# Altium footprint library IC_SMD_QUAD.PCBLIB: 135 footprints (part 8 of 9)
Each footprint in its own frame and in the unit in brackets; x right, y up, seen from the top. Pads: shape width x height; smd on the part's side, far side on the other; paste and mask are expansions set on the pad; w line width, h text height; cw(c..) or ccw(c..) is an arc to the next point about the centre after c.
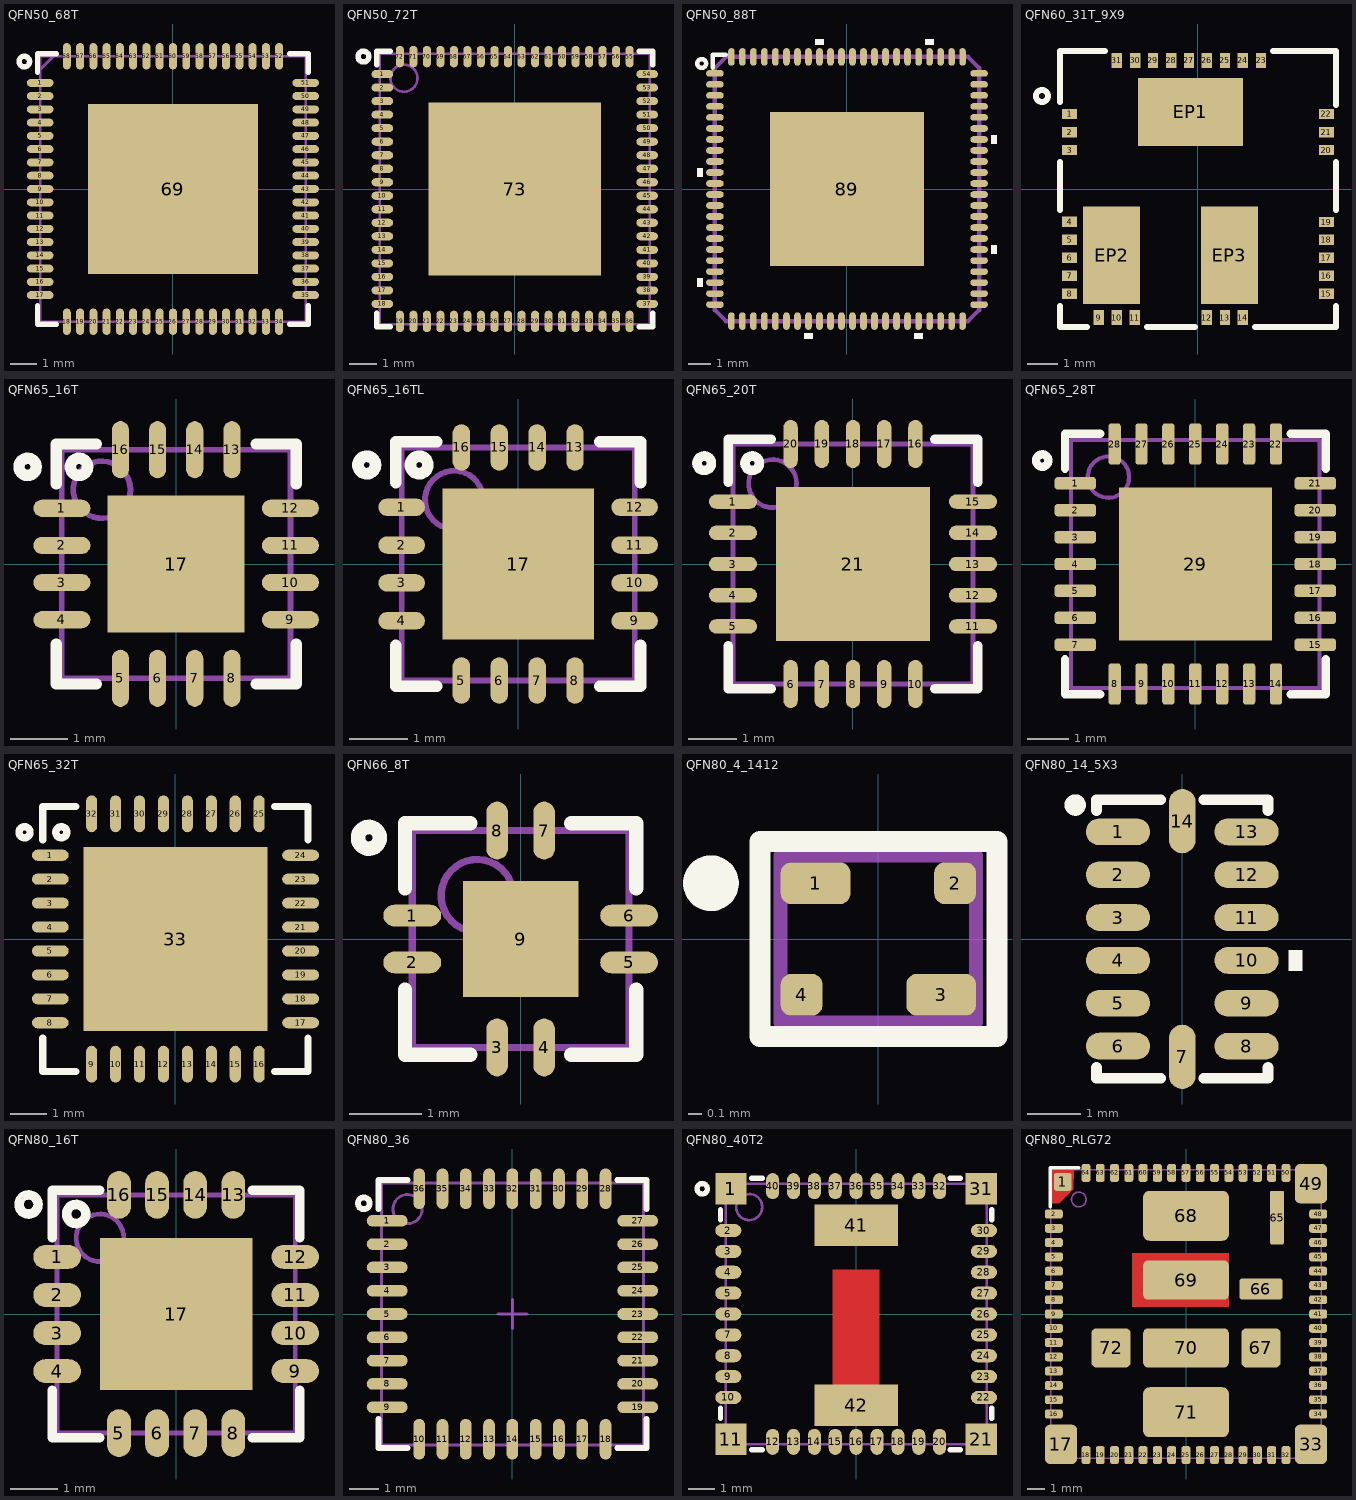
[diagram p7: the footprints below, top view; thin cyan lines are the x and y axes]

## QFN50_68T [mm] "HCP-68-1, 0.5mm pitch, 10X10X0.9mm"
height 0.9
pads (69):
  oval 1x0.3 smd mask+0.05: 1(-5,4) 2(-5,3.5) 3(-5,3) 4(-5,2.5) 5(-5,2) 6(-5,1.5) 7(-5,1) 8(-5,0.5) 9(-5,0) 10(-5,-0.5) 11(-5,-1) 12(-5,-1.5) 13(-5,-2) 14(-5,-2.5) 15(-5,-3) 16(-5,-3.5) 17(-5,-4) 35(5,-4) 36(5,-3.5) 37(5,-3) 38(5,-2.5) 39(5,-2) 40(5,-1.5) 41(5,-1) 42(5,-0.5) 43(5,0) 44(5,0.5) 45(5,1) 46(5,1.5) 47(5,2) 48(5,2.5) 49(5,3) 50(5,3.5) 51(5,4)
  oval 0.3x1 smd mask+0.05: 18(-4,-5) 19(-3.5,-5) 20(-3,-5) 21(-2.5,-5) 22(-2,-5) 23(-1.5,-5) 24(-1,-5) 25(-0.5,-5) 26(0,-5) 27(0.5,-5) 28(1,-5) 29(1.5,-5) 30(2,-5) 31(2.5,-5) 32(3,-5) 33(3.5,-5) 34(4,-5) 52(4,5) 53(3.5,5) 54(3,5) 55(2.5,5) 56(2,5) 57(1.5,5) 58(1,5) 59(0.5,5) 60(0,5) 61(-0.5,5) 62(-1,5) 63(-1.5,5) 64(-2,5) 65(-2.5,5) 66(-3,5) 67(-3.5,5) 68(-4,5)
  rect 6.4x6.4 smd paste-6 mask+0.075: 69(0,0)
TopOverlay:
  circle w0.2: c-5.6,4.8 r0.2
  lines w0.2: -5.1,-4.4 -5.1,-5.1 -4.4,-5.1 ; -5.1,4.4 -5.1,5.1 -4.4,5.1 ; 4.4,-5.1 5.1,-5.1 5.1,-4.4 ; 4.4,5.1 5.1,5.1 5.1,4.4
TopPaste:
  region: 1.2,-0.2 0.2,-0.2 0.2,-1.2 1.2,-1.2
  region: 3,-1.6 1.6,-1.6 1.6,-3 3,-3
  region: 1.2,-1.6 0.2,-1.6 0.2,-3 1.2,-3
  region: 1.6,-0.2 1.6,-1.2 3,-1.2 3,-0.2
  region: -3,-0.2 -3,-1.2 -1.6,-1.2 -1.6,-0.2
  rectangle: -1.2,-3 -0.2,-1.6
  rectangle: -3,-3 -1.6,-1.6
  rectangle: -1.2,-1.2 -0.2,-0.2
  region: 1.2,1.2 0.2,1.2 0.2,0.2 1.2,0.2
  region: 3,3 1.6,3 1.6,1.6 3,1.6
  region: 1.2,3 0.2,3 0.2,1.6 1.2,1.6
  region: 3,0.2 3,1.2 1.6,1.2 1.6,0.2
  region: -1.6,0.2 -1.6,1.2 -3,1.2 -3,0.2
  rectangle: -1.2,1.6 -0.2,3
  rectangle: -3,1.6 -1.6,3
  rectangle: -1.2,0.2 -0.2,1.2
Mechanical15:
  lines w0.1: -5,4.5 -4.5,5 ; -5,-5 -5,5 5,5 5,-5 -5,-5
3D body "HMC7044LP10BE.stp": height 0.9, standoff 0, extent -5.05,-5.05 5.05,5.05

## QFN50_72T [mm] "QFN, 72-Leads, Body 10x10mm, Pitch 0.5mm"
height 1
pads (73):
  oval 0.8x0.3 smd mask+0.05: 1(-4.9,4.25) 2(-4.9,3.75) 3(-4.9,3.25) 4(-4.9,2.75) 5(-4.9,2.25) 6(-4.9,1.75) 7(-4.9,1.25) 8(-4.9,0.75) 9(-4.9,0.25) 10(-4.9,-0.25) 11(-4.9,-0.75) 12(-4.9,-1.25) 13(-4.9,-1.75) 14(-4.9,-2.25) 15(-4.9,-2.75) 16(-4.9,-3.25) 17(-4.9,-3.75) 18(-4.9,-4.25) 37(4.9,-4.25) 38(4.9,-3.75) 39(4.9,-3.25) 40(4.9,-2.75) 41(4.9,-2.25) 42(4.9,-1.75) 43(4.9,-1.25) 44(4.9,-0.75) 45(4.9,-0.25) 46(4.9,0.25) 47(4.9,0.75) 48(4.9,1.25) 49(4.9,1.75) 50(4.9,2.25) 51(4.9,2.75) 52(4.9,3.25) 53(4.9,3.75) 54(4.9,4.25)
  oval 0.3x0.8 smd mask+0.05: 19(-4.25,-4.9) 20(-3.75,-4.9) 21(-3.25,-4.9) 22(-2.75,-4.9) 23(-2.25,-4.9) 24(-1.75,-4.9) 25(-1.25,-4.9) 26(-0.75,-4.9) 27(-0.25,-4.9) 28(0.25,-4.9) 29(0.75,-4.9) 30(1.25,-4.9) 31(1.75,-4.9) 32(2.25,-4.9) 33(2.75,-4.9) 34(3.25,-4.9) 35(3.75,-4.9) 36(4.25,-4.9) 55(4.25,4.9) 56(3.75,4.9) 57(3.25,4.9) 58(2.75,4.9) 59(2.25,4.9) 60(1.75,4.9) 61(1.25,4.9) 62(0.75,4.9) 63(0.25,4.9) 64(-0.25,4.9) 65(-0.75,4.9) 66(-1.25,4.9) 67(-1.75,4.9) 68(-2.25,4.9) 69(-2.75,4.9) 70(-3.25,4.9) 71(-3.75,4.9) 72(-4.25,4.9)
  rect 6.4x6.4 smd paste-5: 73(0,0)
TopOverlay:
  circle w0.2: c-5.6,4.9 r0.2
  lines w0.2: -5.1,-4.6 -5.1,-5.1 -4.6,-5.1 ; -5.1,4.6 -5.1,5.1 -4.6,5.1 ; 4.6,-5.1 5.1,-5.1 5.1,-4.6 ; 4.6,5.1 5.1,5.1 5.1,4.6
TopPaste:
  rectangle: -1.2,-1.2 -0.2,-0.2
  rectangle: -3,-3 -1.6,-1.6
  rectangle: -1.2,-3 -0.2,-1.6
  region: -3,-0.2 -3,-1.2 -1.6,-1.2 -1.6,-0.2
  region: 1.6,-0.2 1.6,-1.2 3,-1.2 3,-0.2
  region: 1.2,-1.6 0.2,-1.6 0.2,-3 1.2,-3
  region: 3,-1.6 1.6,-1.6 1.6,-3 3,-3
  region: 1.2,-0.2 0.2,-0.2 0.2,-1.2 1.2,-1.2
  region: 1.2,1.2 0.2,1.2 0.2,0.2 1.2,0.2
  region: 3,3 1.6,3 1.6,1.6 3,1.6
  region: 1.2,3 0.2,3 0.2,1.6 1.2,1.6
  region: 3,0.2 3,1.2 1.6,1.2 1.6,0.2
  region: -1.6,0.2 -1.6,1.2 -3,1.2 -3,0.2
  rectangle: -1.2,1.6 -0.2,3
  rectangle: -3,1.6 -1.6,3
  rectangle: -1.2,0.2 -0.2,1.2
Mechanical13:
  circle w0.1: c-4.1,4.1 r0.5
  lines w0.1: -5,-5 5,-5 5,5 -5,5 -5,-5
3D body "QFN50_72T.step": height 1, standoff 0, extent -5.001,-5.001 5.001,5.001

## QFN50_88T [mm] "CP-88, 12X12mm, 0.5mm pitch"
pads (89):
  oval 0.8x0.3 smd mask+0.05: 1(-6,5.25) 2(-6,4.75) 3(-6,4.25) 4(-6,3.75) 5(-6,3.25) 6(-6,2.75) 7(-6,2.25) 8(-6,1.75) 9(-6,1.25) 10(-6,0.75) 11(-6,0.25) 12(-6,-0.25) 13(-6,-0.75) 14(-6,-1.25) 15(-6,-1.75) 16(-6,-2.25) 17(-6,-2.75) 18(-6,-3.25) 19(-6,-3.75) 20(-6,-4.25) 21(-6,-4.75) 22(-6,-5.25) 45(6,-5.25) 46(6,-4.75) 47(6,-4.25) 48(6,-3.75) 49(6,-3.25) 50(6,-2.75) 51(6,-2.25) 52(6,-1.75) 53(6,-1.25) 54(6,-0.75) 55(6,-0.25) 56(6,0.25) 57(6,0.75) 58(6,1.25) 59(6,1.75) 60(6,2.25) 61(6,2.75) 62(6,3.25) 63(6,3.75) 64(6,4.25) 65(6,4.75) 66(6,5.25)
  oval 0.3x0.8 smd mask+0.05: 23(-5.25,-6) 24(-4.75,-6) 25(-4.25,-6) 26(-3.75,-6) 27(-3.25,-6) 28(-2.75,-6) 29(-2.25,-6) 30(-1.75,-6) 31(-1.25,-6) 32(-0.75,-6) 33(-0.25,-6) 34(0.25,-6) 35(0.75,-6) 36(1.25,-6) 37(1.75,-6) 38(2.25,-6) 39(2.75,-6) 40(3.25,-6) 41(3.75,-6) 42(4.25,-6) 43(4.75,-6) 44(5.25,-6) 67(5.25,6) 68(4.75,6) 69(4.25,6) 70(3.75,6) 71(3.25,6) 72(2.75,6) 73(2.25,6) 74(1.75,6) 75(1.25,6) 76(0.75,6) 77(0.25,6) 78(-0.25,6) 79(-0.75,6) 80(-1.25,6) 81(-1.75,6) 82(-2.25,6) 83(-2.75,6) 84(-3.25,6) 85(-3.75,6) 86(-4.25,6) 87(-4.75,6) 88(-5.25,6)
  rect 7x7 smd paste-3.5 mask+0.05: 89(0,0)
TopOverlay:
  circle w0.2: c-6.6,5.7 r0.2
  region: -1.059,6.559 -1.44,6.559 -1.44,6.813 -1.059,6.813
  region: 3.941,6.559 3.56,6.559 3.56,6.813 3.941,6.813
  region: 6.559,2.441 6.813,2.441 6.813,2.06 6.559,2.06
  region: 6.559,-2.559 6.813,-2.559 6.813,-2.94 6.559,-2.94
  region: 3.441,-6.559 3.06,-6.559 3.06,-6.813 3.441,-6.813
  region: -1.559,-6.559 -1.94,-6.559 -1.94,-6.813 -1.559,-6.813
  region: -6.559,-4.059 -6.813,-4.059 -6.813,-4.44 -6.559,-4.44
  region: -6.559,0.941 -6.813,0.941 -6.813,0.56 -6.559,0.56
  lines w0.2: -6.1,5.5 -6.1,6.1 -5.5,6.1
TopPaste:
  region: 3.25,-2.11 2.11,-2.11 2.11,-3.25 3.25,-3.25
  region: 3.25,-0.77 2.11,-0.77 2.11,-1.91 3.25,-1.91
  region: 3.25,0.57 2.11,0.57 2.11,-0.57 3.25,-0.57
  region: 3.25,1.91 2.11,1.91 2.11,0.77 3.25,0.77
  region: 3.25,3.25 2.11,3.25 2.11,2.11 3.25,2.11
  region: 1.91,-2.11 0.77,-2.11 0.77,-3.25 1.91,-3.25
  region: 1.91,-0.77 0.77,-0.77 0.77,-1.91 1.91,-1.91
  region: 1.91,0.57 0.77,0.57 0.77,-0.57 1.91,-0.57
  region: 1.91,1.91 0.77,1.91 0.77,0.77 1.91,0.77
  region: 1.91,3.25 0.77,3.25 0.77,2.11 1.91,2.11
  region: 0.57,-2.11 -0.57,-2.11 -0.57,-3.25 0.57,-3.25
  region: 0.57,-0.77 -0.57,-0.77 -0.57,-1.91 0.57,-1.91
  region: 0.57,0.57 -0.57,0.57 -0.57,-0.57 0.57,-0.57
  region: 0.57,1.91 -0.57,1.91 -0.57,0.77 0.57,0.77
  region: 0.57,3.25 -0.57,3.25 -0.57,2.11 0.57,2.11
  region: -0.77,-2.11 -1.91,-2.11 -1.91,-3.25 -0.77,-3.25
  region: -0.77,-0.77 -1.91,-0.77 -1.91,-1.91 -0.77,-1.91
  region: -0.77,0.57 -1.91,0.57 -1.91,-0.57 -0.77,-0.57
  region: -0.77,1.91 -1.91,1.91 -1.91,0.77 -0.77,0.77
  region: -0.77,3.25 -1.91,3.25 -1.91,2.11 -0.77,2.11
  region: -2.11,-2.11 -3.25,-2.11 -3.25,-3.25 -2.11,-3.25
  region: -2.11,-0.77 -3.25,-0.77 -3.25,-1.91 -2.11,-1.91
  region: -2.11,0.57 -3.25,0.57 -3.25,-0.57 -2.11,-0.57
  region: -2.11,1.91 -3.25,1.91 -3.25,0.77 -2.11,0.77
  region: -2.11,3.25 -3.25,3.25 -3.25,2.11 -2.11,2.11
Mechanical13:
  lines w0.2: -6,-5.5 -6,5.5 -5.5,6 5.5,6 6,5.5 6,-5.5 5.5,-6 -5.5,-6 -6,-5.5
3D body: height 0.9, standoff 0.05, extent -6,-6 6,6
3D body: height 0.2, standoff 0, extent -6.025,5.125 -5.575,5.375
3D body: height 0.2, standoff 0, extent -6.025,4.625 -5.575,4.875
3D body: height 0.2, standoff 0, extent -6.025,4.125 -5.575,4.375
3D body: height 0.2, standoff 0, extent -6.025,3.625 -5.575,3.875
3D body: height 0.2, standoff 0, extent -6.025,3.125 -5.575,3.375
3D body: height 0.2, standoff 0, extent -6.025,2.625 -5.575,2.875
3D body: height 0.2, standoff 0, extent -6.025,2.125 -5.575,2.375
3D body: height 0.2, standoff 0, extent -6.025,1.625 -5.575,1.875
3D body: height 0.2, standoff 0, extent -6.025,1.125 -5.575,1.375
3D body: height 0.2, standoff 0, extent -6.025,0.625 -5.575,0.875
3D body: height 0.2, standoff 0, extent -6.025,0.125 -5.575,0.375
3D body: height 0.2, standoff 0, extent -6.025,-0.375 -5.575,-0.125
3D body: height 0.2, standoff 0, extent -6.025,-0.875 -5.575,-0.625
3D body: height 0.2, standoff 0, extent -6.025,-1.375 -5.575,-1.125
3D body: height 0.2, standoff 0, extent -6.025,-1.875 -5.575,-1.625
3D body: height 0.2, standoff 0, extent -6.025,-2.375 -5.575,-2.125
3D body: height 0.2, standoff 0, extent -6.025,-2.875 -5.575,-2.625
3D body: height 0.2, standoff 0, extent -6.025,-3.375 -5.575,-3.125
3D body: height 0.2, standoff 0, extent -6.025,-3.875 -5.575,-3.625
3D body: height 0.2, standoff 0, extent -6.025,-4.375 -5.575,-4.125
3D body: height 0.2, standoff 0, extent -6.025,-4.875 -5.575,-4.625
3D body: height 0.2, standoff 0, extent -6.025,-5.375 -5.575,-5.125
3D body: height 0.2, standoff 0, extent 5.125,-6.025 5.375,-5.575
3D body: height 0.2, standoff 0, extent 4.625,-6.025 4.875,-5.575
3D body: height 0.2, standoff 0, extent 4.125,-6.025 4.375,-5.575
3D body: height 0.2, standoff 0, extent 3.625,-6.025 3.875,-5.575
3D body: height 0.2, standoff 0, extent 3.125,-6.025 3.375,-5.575
3D body: height 0.2, standoff 0, extent 2.625,-6.025 2.875,-5.575
3D body: height 0.2, standoff 0, extent 2.125,-6.025 2.375,-5.575
3D body: height 0.2, standoff 0, extent 1.625,-6.025 1.875,-5.575
3D body: height 0.2, standoff 0, extent 1.125,-6.025 1.375,-5.575
3D body: height 0.2, standoff 0, extent 0.625,-6.025 0.875,-5.575
3D body: height 0.2, standoff 0, extent 0.125,-6.025 0.375,-5.575
3D body: height 0.2, standoff 0, extent -0.375,-6.025 -0.125,-5.575
3D body: height 0.2, standoff 0, extent -0.875,-6.025 -0.625,-5.575
3D body: height 0.2, standoff 0, extent -1.375,-6.025 -1.125,-5.575
3D body: height 0.2, standoff 0, extent -1.875,-6.025 -1.625,-5.575
3D body: height 0.2, standoff 0, extent -2.375,-6.025 -2.125,-5.575
3D body: height 0.2, standoff 0, extent -2.875,-6.025 -2.625,-5.575
3D body: height 0.2, standoff 0, extent -3.375,-6.025 -3.125,-5.575
3D body: height 0.2, standoff 0, extent -3.875,-6.025 -3.625,-5.575
3D body: height 0.2, standoff 0, extent -4.375,-6.025 -4.125,-5.575
3D body: height 0.2, standoff 0, extent -4.875,-6.025 -4.625,-5.575
3D body: height 0.2, standoff 0, extent -5.375,-6.025 -5.125,-5.575
3D body: height 0.2, standoff 0, extent 5.575,5.125 6.025,5.375
3D body: height 0.2, standoff 0, extent 5.575,4.625 6.025,4.875
3D body: height 0.2, standoff 0, extent 5.575,4.125 6.025,4.375
3D body: height 0.2, standoff 0, extent 5.575,3.625 6.025,3.875
3D body: height 0.2, standoff 0, extent 5.575,3.125 6.025,3.375
3D body: height 0.2, standoff 0, extent 5.575,2.625 6.025,2.875
3D body: height 0.2, standoff 0, extent 5.575,2.125 6.025,2.375
3D body: height 0.2, standoff 0, extent 5.575,1.625 6.025,1.875
3D body: height 0.2, standoff 0, extent 5.575,1.125 6.025,1.375
3D body: height 0.2, standoff 0, extent 5.575,0.625 6.025,0.875
3D body: height 0.2, standoff 0, extent 5.575,0.125 6.025,0.375
3D body: height 0.2, standoff 0, extent 5.575,-0.375 6.025,-0.125
3D body: height 0.2, standoff 0, extent 5.575,-0.875 6.025,-0.625
3D body: height 0.2, standoff 0, extent 5.575,-1.375 6.025,-1.125
3D body: height 0.2, standoff 0, extent 5.575,-1.875 6.025,-1.625
3D body: height 0.2, standoff 0, extent 5.575,-2.375 6.025,-2.125
3D body: height 0.2, standoff 0, extent 5.575,-2.875 6.025,-2.625
3D body: height 0.2, standoff 0, extent 5.575,-3.375 6.025,-3.125
3D body: height 0.2, standoff 0, extent 5.575,-3.875 6.025,-3.625
3D body: height 0.2, standoff 0, extent 5.575,-4.375 6.025,-4.125
3D body: height 0.2, standoff 0, extent 5.575,-4.875 6.025,-4.625
3D body: height 0.2, standoff 0, extent 5.575,-5.375 6.025,-5.125
3D body: height 0.2, standoff 0, extent -5.375,5.575 -5.125,6.025
3D body: height 0.2, standoff 0, extent -4.875,5.575 -4.625,6.025
3D body: height 0.2, standoff 0, extent -4.375,5.575 -4.125,6.025
3D body: height 0.2, standoff 0, extent -3.875,5.575 -3.625,6.025
3D body: height 0.2, standoff 0, extent -3.375,5.575 -3.125,6.025
3D body: height 0.2, standoff 0, extent -2.875,5.575 -2.625,6.025
3D body: height 0.2, standoff 0, extent -2.375,5.575 -2.125,6.025
3D body: height 0.2, standoff 0, extent -1.875,5.575 -1.625,6.025
3D body: height 0.2, standoff 0, extent -1.375,5.575 -1.125,6.025
3D body: height 0.2, standoff 0, extent -0.875,5.575 -0.625,6.025
3D body: height 0.2, standoff 0, extent -0.375,5.575 -0.125,6.025
3D body: height 0.2, standoff 0, extent 0.125,5.575 0.375,6.025
3D body: height 0.2, standoff 0, extent 0.625,5.575 0.875,6.025
3D body: height 0.2, standoff 0, extent 1.125,5.575 1.375,6.025
3D body: height 0.2, standoff 0, extent 1.625,5.575 1.875,6.025
3D body: height 0.2, standoff 0, extent 2.125,5.575 2.375,6.025
3D body: height 0.2, standoff 0, extent 2.625,5.575 2.875,6.025
3D body: height 0.2, standoff 0, extent 3.125,5.575 3.375,6.025
3D body: height 0.2, standoff 0, extent 3.625,5.575 3.875,6.025
3D body: height 0.2, standoff 0, extent 4.125,5.575 4.375,6.025
3D body: height 0.2, standoff 0, extent 4.625,5.575 4.875,6.025
3D body: height 0.2, standoff 0, extent 5.125,5.575 5.375,6.025
3D body: height 0.1, standoff 0, extent -3.4,-3.4 3.4,3.4

## QFN60_31T_9X9 [mm] "QFN 9x9x1mm, 31 leads, pitch 0.6 mm"
pads (34):
  rect 0.5x0.35 smd paste-0.05 mask+0.05: 1(-4.28,2.5) 2(-4.28,1.9) 3(-4.28,1.3) 4(-4.28,-1.1) 5(-4.28,-1.7) 6(-4.28,-2.3) 7(-4.28,-2.9) 8(-4.28,-3.5) 15(4.28,-3.5) 16(4.28,-2.9) 17(4.28,-2.3) 18(4.28,-1.7) 19(4.28,-1.1) 20(4.28,1.3) 21(4.28,1.9) 22(4.28,2.5)
  rect 0.35x0.5 smd paste-0.05 mask+0.05: 9(-3.305,-4.29) 10(-2.705,-4.29) 11(-2.105,-4.29) 12(0.3,-4.29) 13(0.9,-4.29) 14(1.5,-4.29) 23(2.1,4.29) 24(1.5,4.29) 25(0.9,4.29) 26(0.3,4.29) 27(-0.3,4.29) 28(-0.9,4.29) 29(-1.5,4.29) 30(-2.1,4.29) 31(-2.7,4.29)
  rect 3.505x2.261 smd: EP1(-0.25,2.57)
  rect 1.905x3.251 smd: EP2(-2.88,-2.215) EP3(1.05,-2.215)
TopOverlay:
  circle w0.2: c-5.2,3.1 r0.2
  lines w0.2: -4.6,-3.9 -4.6,-4.6 -3.7,-4.6 ; -4.6,-0.7 -4.6,0.9 ; -4.6,2.9 -4.6,4.6 -3.1,4.6 ; -1.7,-4.6 -0.1,-4.6 ; 1.9,-4.6 4.6,-4.6 4.6,-3.9 ; 2.5,4.6 4.6,4.6 4.6,2.8 ; 4.6,-0.7 4.6,0.9
3D body: height 1, standoff 0, extent -4.5,-4.5 4.5,4.5

## QFN65_16T [mm] "QFN, RGV, CP -16-23, LFCSP_WQ, 4X4mm, 0.65mm, MO-220 VGGC WGGC-4(JEDEC)"
pads (17):
  oval 1x0.3 smd mask+0.075: 1(-2,0.975) 2(-2,0.325) 3(-2,-0.325) 4(-2,-0.975) 9(2,-0.975) 10(2,-0.325) 11(2,0.325) 12(2,0.975)
  oval 0.3x1 smd mask+0.075: 5(-0.975,-2) 6(-0.325,-2) 7(0.325,-2) 8(0.975,-2) 13(0.975,2) 14(0.325,2) 15(-0.325,2) 16(-0.975,2)
  rect 2.4x2.4 smd paste-1.2 mask+0.075: 17(0,0)
TopOverlay:
  circle w0.2: c-1.7,1.7 r0.15
  circle w0.2: c-2.6,1.7 r0.15
  lines w0.2: -2.1,-1.4 -2.1,-2.1 -1.4,-2.1 ; -2.1,1.4 -2.1,2.1 -1.4,2.1 ; 1.4,-2.1 2.1,-2.1 2.1,-1.4 ; 1.4,2.1 2.1,2.1 2.1,1.4
TopPaste:
  rectangle: -1.1,-1.1 -0.2,-0.2
  region: 1.1,-0.2 0.2,-0.2 0.2,-1.1 1.1,-1.1
  region: 1.1,1.1 0.2,1.1 0.2,0.2 1.1,0.2
  rectangle: -1.1,0.2 -0.2,1.1
Mechanical13:
  circle w0.1: c-1.3,1.3 r0.5
  lines w0.1: -2,-2 -2,2 2,2 2,-2 -2,-2
3D body "RGV0016A.stp": height 1, standoff 0, extent -2,-2 2,2

## QFN65_16TL [mm] "QFN, RSA, LLP 16, SQB16A, 4X4mm, pitch: 0.65mm"
height 0.8
pads (17):
  oval 0.8x0.3 smd mask+0.075: 1(-2,0.975) 2(-2,0.325) 3(-2,-0.325) 4(-2,-0.975) 9(2,-0.975) 10(2,-0.325) 11(2,0.325) 12(2,0.975)
  oval 0.3x0.8 smd mask+0.075: 5(-0.975,-2) 6(-0.325,-2) 7(0.325,-2) 8(0.975,-2) 13(0.975,2) 14(0.325,2) 15(-0.325,2) 16(-0.975,2)
  rect 2.6x2.6 smd paste-1.3 mask+0.075: 17(0,0)
TopOverlay:
  circle w0.2: c-1.7,1.7 r0.15
  circle w0.2: c-2.6,1.7 r0.15
  lines w0.2: -2.1,-1.4 -2.1,-2.1 -1.4,-2.1 ; -2.1,1.4 -2.1,2.1 -1.4,2.1 ; 1.4,-2.1 2.1,-2.1 2.1,-1.4 ; 1.4,2.1 2.1,2.1 2.1,1.4
TopPaste:
  region: 0.2,1.2 0.2,0.2 1.2,0.2 1.2,1.2
  region: 1.2,-0.2 0.2,-0.2 0.2,-1.2 1.2,-1.2
  region: -0.2,-1.2 -0.2,-0.2 -1.2,-0.2 -1.2,-1.2
  rectangle: -1.2,0.2 -0.2,1.2
Mechanical13:
  circle w0.1: c-1.1,1.1 r0.5
  lines w0.1: -2,-2 2,-2 2,2 -2,2 -2,-2
3D body "QFN65_16TL.step": height 0.8, standoff 0, extent -2.001,-2.001 2.001,2.001

## QFN65_20T [mm] "QFN, 20-Leads, RGW/S-PVQFN-N20, 5x5mm, Pitch 0.65mm, MO-220(JEDEC)"
height 1
pads (21):
  oval 1x0.3 smd mask+0.075: 1(-2.5,1.3) 2(-2.5,0.65) 3(-2.5,0) 4(-2.5,-0.65) 5(-2.5,-1.3) 11(2.5,-1.3) 12(2.5,-0.65) 13(2.5,0) 14(2.5,0.65) 15(2.5,1.3)
  oval 0.3x1 smd mask+0.075: 6(-1.3,-2.5) 7(-0.65,-2.5) 8(0,-2.5) 9(0.65,-2.5) 10(1.3,-2.5) 16(1.3,2.5) 17(0.65,2.5) 18(0,2.5) 19(-0.65,2.5) 20(-1.3,2.5)
  rect 3.2x3.2 smd paste-5 mask+0.1: 21(0,0)
TopOverlay:
  circle w0.2: c-3.1,2.1 r0.15
  circle w0.2: c-2.1,2.1 r0.15
  lines w0.2: -2.6,-1.7 -2.6,-2.6 -1.7,-2.6 ; -2.6,1.7 -2.6,2.6 -1.7,2.6 ; 1.7,-2.6 2.6,-2.6 2.6,-1.7 ; 1.7,2.6 2.6,2.6 2.6,1.7
TopPaste:
  rectangle: -1.4,0.2 -0.2,1.4
  region: 1.4,1.4 0.2,1.4 0.2,0.2 1.4,0.2
  region: 1.4,-0.2 0.2,-0.2 0.2,-1.4 1.4,-1.4
  rectangle: -1.4,-1.4 -0.2,-0.2
Mechanical13:
  circle w0.1: c-1.675,1.675 r0.5
  lines w0.1: -2.5,-2.5 -2.5,2.5 2.5,2.5 2.5,-2.5 -2.5,-2.5
3D body: height 1, standoff 0, extent -2.5,-2.5 2.5,2.5

## QFN65_28T [mm] "QFN, 28-Leads, Body 6.00x6.00mm, Pitch 0.65mm"
height 1
pads (29):
  rrect50% 1x0.3 smd mask+0.075: 1(-2.9,1.95) 2(-2.9,1.3) 3(-2.9,0.65) 4(-2.9,0) 5(-2.9,-0.65) 6(-2.9,-1.3) 7(-2.9,-1.95) 15(2.9,-1.95) 16(2.9,-1.3) 17(2.9,-0.65) 18(2.9,0) 19(2.9,0.65) 20(2.9,1.3) 21(2.9,1.95)
  rrect50% 0.3x1 smd mask+0.075: 8(-1.95,-2.9) 9(-1.3,-2.9) 10(-0.65,-2.9) 11(0,-2.9) 12(0.65,-2.9) 13(1.3,-2.9) 14(1.95,-2.9) 22(1.95,2.9) 23(1.3,2.9) 24(0.65,2.9) 25(0,2.9) 26(-0.65,2.9) 27(-1.3,2.9) 28(-1.95,2.9)
  rect 3.7x3.7 smd paste-5: 29(0,0)
TopOverlay:
  circle w0.2: c-3.7,2.5 r0.15
  lines w0.2: -3.15,-2.3 -3.15,-3.15 -2.3,-3.15 ; -3.15,2.3 -3.15,3.15 -2.3,3.15 ; 2.3,-3.15 3.15,-3.15 3.15,-2.3 ; 2.3,3.15 3.15,3.15 3.15,2.3
TopPaste:
  rectangle: -1.7,0.2 -0.2,1.7
  region: 1.7,1.7 0.2,1.7 0.2,0.2 1.7,0.2
  region: 1.7,-0.2 0.2,-0.2 0.2,-1.7 1.7,-1.7
  rectangle: -1.7,-1.7 -0.2,-0.2
Mechanical13:
  circle w0.1: c-2.1,2.1 r0.5
  lines w0.1: -3,-3 -3,3 3,3 3,-3 -3,-3
3D body "QFN65_28T.step": height 1, standoff 0, extent -3.03,-3.03 3.03,3.03

## QFN65_32T [mm] "32 TQFN-EP, 7X7mm, 0.65mm"
height 1
pads (33):
  oval 1x0.3 smd mask+0.075: 1(-3.4,2.275) 2(-3.4,1.625) 3(-3.4,0.975) 4(-3.4,0.325) 5(-3.4,-0.325) 6(-3.4,-0.975) 7(-3.4,-1.625) 8(-3.4,-2.275) 17(3.4,-2.275) 18(3.4,-1.625) 19(3.4,-0.975) 20(3.4,-0.325) 21(3.4,0.325) 22(3.4,0.975) 23(3.4,1.625) 24(3.4,2.275)
  oval 0.3x1 smd mask+0.075: 9(-2.275,-3.4) 10(-1.625,-3.4) 11(-0.975,-3.4) 12(-0.325,-3.4) 13(0.325,-3.4) 14(0.975,-3.4) 15(1.625,-3.4) 16(2.275,-3.4) 25(2.275,3.4) 26(1.625,3.4) 27(0.975,3.4) 28(0.325,3.4) 29(-0.325,3.4) 30(-0.975,3.4) 31(-1.625,3.4) 32(-2.275,3.4)
  rect 5x5 smd paste-3: 33(0,0)
TopOverlay:
  circle w0.2: c-3.1,2.9 r0.15
  circle w0.2: c-4.1,2.9 r0.15
  lines w0.2: -3.6,-2.7 -3.6,-3.6 -2.7,-3.6 ; -3.6,2.7 -3.6,3.6 -2.7,3.6 ; 2.7,-3.6 3.6,-3.6 3.6,-2.7 ; 2.7,3.6 3.6,3.6 3.6,2.7
TopPaste:
  rectangle: -2.2,0.2 -0.2,2.2
  region: 2.2,2.2 0.2,2.2 0.2,0.2 2.2,0.2
  region: 2.2,-0.2 0.2,-0.2 0.2,-2.2 2.2,-2.2
  rectangle: -2.2,-2.2 -0.2,-0.2
3D body "SW3dPS-QFN-32.STEP": height 1.02, standoff -0.09, extent -3.5,-3.5 3.5,3.5

## QFN66_8T [mm] "MINI-CIRCUIT AMP, CASE STYLE: DQ849, pitch: 0.66mm"
height 0.9
pads (9):
  oval 0.8x0.3 smd: 1(-1.5,0.325) 2(-1.5,-0.325) 5(1.5,-0.325) 6(1.5,0.325)
  oval 0.3x0.8 smd: 3(-0.325,-1.5) 4(0.325,-1.5) 7(0.325,1.5) 8(-0.325,1.5)
  rect 1.6x1.6 smd paste-3: 9(0,0)
TopOverlay:
  circle w0.2: c-2.1,1.4 r0.15
  lines w0.2: -1.6,-0.7 -1.6,-1.6 -0.7,-1.6 ; -1.6,0.7 -1.6,1.6 -0.7,1.6 ; 0.7,-1.6 1.6,-1.6 1.6,-0.7 ; 0.7,1.6 1.6,1.6 1.6,0.7
TopPaste:
  rectangle: -0.7,-0.7 -0.1,-0.1
  region: 0.7,-0.1 0.1,-0.1 0.1,-0.7 0.7,-0.7
  region: 0.7,0.7 0.1,0.7 0.1,0.1 0.7,0.1
  rectangle: -0.7,0.1 -0.1,0.7
Mechanical13:
  circle w0.1: c-0.6,0.6 r0.5
  lines w0.1: -1.5,-1.5 1.5,-1.5 1.5,1.5 -1.5,1.5 -1.5,-1.5
3D body: height 0.9, standoff 0, extent -1.5,-1.5 1.5,1.5

## QFN80_4_1412 [mm] "TE2769, PQFN, 4-Leads, Body 1.40x1.20mm, Pitch 0.80mm"
height 0.85
pads (4):
  rrect50% 0.5x0.3 smd mask+0.075: 1(-0.45,0.4) 3(0.45,-0.4)
  rrect50% 0.3x0.3 smd mask+0.075: 2(0.55,0.4) 4(-0.55,-0.4)
TopOverlay:
  circle w0.2: c-1.2,0.4 r0.1
  lines w0.15: -0.85,-0.7 -0.85,0.7 0.85,0.7 0.85,-0.7 -0.85,-0.7
Mechanical13:
  lines w0.1: -0.7,-0.6 0.7,-0.6 0.7,0.6 -0.7,0.6 -0.7,-0.6
3D body "QFN80_4_1412.step": height 0.85, standoff 0, extent -0.7,-0.6 0.7,0.6

## QFN80_14_5X3 [mm] "LGA_CC-14-1 ADXL345"
height 1
pads (14):
  oval 1.2x0.5 smd mask+0.075: 1(-1.2,2) 2(-1.2,1.2) 3(-1.2,0.4) 4(-1.2,-0.4) 5(-1.2,-1.2) 6(-1.2,-2) 8(1.2,-2) 9(1.2,-1.2) 10(1.2,-0.4) 11(1.2,0.4) 12(1.2,1.2) 13(1.2,2)
  oval 0.5x1.2 smd mask+0.075: 7(0,-2.2) 14(0,2.2)
TopOverlay:
  circle w0.2: c-2,2.5 r0.1
  region: 1.984,-0.209 2.238,-0.209 2.238,-0.59 1.984,-0.59
  lines w0.2: -1.6,-2.4 -1.6,-2.6 -0.4,-2.6 ; -1.6,2.4 -1.6,2.6 -0.4,2.6 ; 0.4,-2.6 1.6,-2.6 1.6,-2.4 ; 0.4,2.6 1.6,2.6 1.6,2.4
3D body "SW3dPS-LGA-14.STEP": height 1.03, standoff -0.4, extent -1.5,-2.5 1.5,2.5

## QFN80_16T [mm] "QFN, 16-Leads, Body 5.00x5.00mm, Pitch 0.80mm, Thermal Pad 3.00x3.00mm"
height 0.8
pads (17):
  oval 1x0.5 smd mask+0.1: 1(-2.5,1.2) 2(-2.5,0.4) 3(-2.5,-0.4) 4(-2.5,-1.2) 9(2.5,-1.2) 10(2.5,-0.4) 11(2.5,0.4) 12(2.5,1.2)
  oval 0.5x1 smd mask+0.1: 5(-1.2,-2.5) 6(-0.4,-2.5) 7(0.4,-2.5) 8(1.2,-2.5) 13(1.2,2.5) 14(0.4,2.5) 15(-0.4,2.5) 16(-1.2,2.5)
  rect 3.2x3.2 smd paste-3 mask+0.1: 17(0,0)
TopOverlay:
  circle w0.2: c-3.1,2.3 r0.2
  circle w0.2: c-2.1,2.1 r0.2
  lines w0.2: -2.6,-1.6 -2.6,-2.6 -1.6,-2.6 ; -2.6,1.6 -2.6,2.6 -1.6,2.6 ; 1.6,-2.6 2.6,-2.6 2.6,-1.6 ; 1.6,2.6 2.6,2.6 2.6,1.6
TopPaste:
  rectangle: -1.4,0.2 -0.2,1.4
  region: 1.4,1.4 0.2,1.4 0.2,0.2 1.4,0.2
  region: 1.4,-0.2 0.2,-0.2 0.2,-1.4 1.4,-1.4
  rectangle: -1.4,-1.4 -0.2,-0.2
Mechanical13:
  circle w0.1: c-1.6,1.6 r0.5
  lines w0.1: -2.5,-2.5 2.5,-2.5 2.5,2.5 -2.5,2.5 -2.5,-2.5
3D body: height 0.8, standoff 0, extent -2.5,-2.5 2.5,2.5

## QFN80_36 [mm] "LPCC (HMC6343)IDT72255, 9X9mm, 0.8mm"
height 2
pads (36):
  oval 1.4x0.4 smd mask+0.05: 1(-4.3,3.2) 2(-4.3,2.4) 3(-4.3,1.6) 4(-4.3,0.8) 5(-4.3,0) 6(-4.3,-0.8) 7(-4.3,-1.6) 8(-4.3,-2.4) 9(-4.3,-3.2) 19(4.3,-3.2) 20(4.3,-2.4) 21(4.3,-1.6) 22(4.3,-0.8) 23(4.3,0) 24(4.3,0.8) 25(4.3,1.6) 26(4.3,2.4) 27(4.3,3.2)
  oval 0.4x1.4 smd mask+0.05: 10(-3.2,-4.3) 11(-2.4,-4.3) 12(-1.6,-4.3) 13(-0.8,-4.3) 14(0,-4.3) 15(0.8,-4.3) 16(1.6,-4.3) 17(2.4,-4.3) 18(3.2,-4.3) 28(3.2,4.3) 29(2.4,4.3) 30(1.6,4.3) 31(0.8,4.3) 32(0,4.3) 33(-0.8,4.3) 34(-1.6,4.3) 35(-2.4,4.3) 36(-3.2,4.3)
TopOverlay:
  circle w0.2: c-5.1,3.8 r0.2
  lines w0.2: -4.6,-3.6 -4.6,-4.6 -3.6,-4.6 ; -4.6,3.6 -4.6,4.6 -3.6,4.6 ; 3.6,-4.6 4.6,-4.6 4.6,-3.6 ; 3.6,4.6 4.6,4.6 4.6,3.6
Mechanical13:
  circle w0.1: c-3.6,3.6 r0.5
  lines w0.1: -4.5,-4.5 -4.5,4.5 4.5,4.5 4.5,-4.5 -4.5,-4.5
Mechanical15:
  lines w0.1: -0.5,0 0.5,0 ; 0,-0.5 0,0.5
3D body "QFN80_36--.step": height 2, standoff 0, extent -4.5,-4.5 4.5,4.5

## QFN80_40T2 [mm] "QFN, 40-Leads, Body 10x10mm, Pitch 0.80mm RVQ (TI)"
height 4.4
pads (42):
  rect 1.2x1.2 smd paste-0.15 mask+0.075: 1(-4.8,4.8) 11(-4.8,-4.8) 21(4.8,-4.8) 31(4.8,4.8)
  oval 1x0.5 smd mask+0.075: 2(-4.9,3.2) 3(-4.9,2.4) 4(-4.9,1.6) 5(-4.9,0.8) 6(-4.9,0) 7(-4.9,-0.8) 8(-4.9,-1.6) 9(-4.9,-2.4) 10(-4.9,-3.2) 22(4.9,-3.2) 23(4.9,-2.4) 24(4.9,-1.6) 25(4.9,-0.8) 26(4.9,0) 27(4.9,0.8) 28(4.9,1.6) 29(4.9,2.4) 30(4.9,3.2)
  oval 0.5x1 smd mask+0.075: 12(-3.2,-4.9) 13(-2.4,-4.9) 14(-1.6,-4.9) 15(-0.8,-4.9) 16(0,-4.9) 17(0.8,-4.9) 18(1.6,-4.9) 19(2.4,-4.9) 20(3.2,-4.9) 32(3.2,4.9) 33(2.4,4.9) 34(1.6,4.9) 35(0.8,4.9) 36(0,4.9) 37(-0.8,4.9) 38(-1.6,4.9) 39(-2.4,4.9) 40(-3.2,4.9)
  rect 3.2x1.6 smd paste-3 mask+0.075: 41(0,3.4) 42(0,-3.5)
TopLayer:
  rectangle: -0.9,-4.3 0.9,1.7
TopOverlay:
  circle w0.2: c-5.9,4.8 r0.2
  lines w0.2: -5.2,-4 -5.2,-3.6 ; -5.2,3.6 -5.2,4 ; -4,-5.2 -3.6,-5.2 ; -4,5.2 -3.6,5.2 ; 3.6,-5.2 4,-5.2 ; 3.6,5.2 4,5.2 ; 5.2,-4 5.2,-3.6 ; 5.2,3.6 5.2,4
TopPaste:
  region: 1.5,3.9 0.5,3.9 0.5,2.9 1.5,2.9
  rectangle: -0.3,2.9 0.3,3.9
  rectangle: -1.5,2.9 -0.5,3.9
  rectangle: -0.3,0.4 0.3,1.4
  rectangle: -0.3,-0.8 0.3,0.2
  rectangle: -0.3,-2 0.3,-1
  rectangle: -1.5,-4 -0.5,-3
  rectangle: -0.3,-4 0.3,-3
  region: 1.5,-3 0.5,-3 0.5,-4 1.5,-4
TopSolder:
  rectangle: -1.7,-4.3 1.7,-2.9
  rectangle: -0.3,-2.9 0.3,1.7
Mechanical13:
  circle w0.1: c-4.1,4.1 r0.5
  lines w0.1: -5,-5 -5,5 5,5 5,-5 -5,-5
3D body "RVQ0042A.stp": height 4.2, standoff 0, extent -5,-5 5,5

## QFN80_RLG72 [mm] "RLG-72, 0.8mm pitch, 15X16mm"
pads (72):
  rrect30% 1x1 smd paste-0.5 mask+0.051: 1(-6.9,7.4)
  rrect50% 1x0.5 smd paste+0 mask+0.075: 2(-7.4,5.6) 3(-7.4,4.8) 4(-7.4,4) 5(-7.4,3.2) 6(-7.4,2.4) 7(-7.4,1.6) 8(-7.4,0.8) 9(-7.4,0) 10(-7.4,-0.8) 11(-7.4,-1.6) 12(-7.4,-2.4) 13(-7.4,-3.2) 14(-7.4,-4) 15(-7.4,-4.8) 16(-7.4,-5.6) 34(7.4,-5.6) 35(7.4,-4.8) 36(7.4,-4) 37(7.4,-3.2) 38(7.4,-2.4) 39(7.4,-1.6) 40(7.4,-0.8) 41(7.4,0) 42(7.4,0.8) 43(7.4,1.6) 44(7.4,2.4) 45(7.4,3.2) 46(7.4,4) 47(7.4,4.8) 48(7.4,5.6)
  rrect30% 1.8x2.2 smd paste-0.2 mask+0.075: 17(-7,-7.3) 33(7,-7.3) 49(7,7.3)
  rrect50% 0.5x1 smd paste+0 mask+0.075: 18(-5.602,-7.9) 19(-4.802,-7.9) 20(-4.002,-7.9) 21(-3.202,-7.9) 22(-2.402,-7.9) 23(-1.602,-7.9) 24(-0.802,-7.9) 25(-0.002,-7.9) 26(0.798,-7.9) 27(1.598,-7.9) 28(2.398,-7.9) 29(3.198,-7.9) 30(3.998,-7.9) 31(4.798,-7.9) 32(5.598,-7.9) 50(5.598,7.9) 51(4.798,7.9) 52(3.998,7.9) 53(3.198,7.9) 54(2.398,7.9) 55(1.598,7.9) 56(0.798,7.9) 57(-0.002,7.9) 58(-0.802,7.9) 59(-1.602,7.9) 60(-2.402,7.9) 61(-3.202,7.9) 62(-4.002,7.9) 63(-4.802,7.9) 64(-5.602,7.9)
  rrect25% 0.8x3 smd paste-1 mask+0.075: 65(5.1,5.4)
  rrect25% 2.4x1.2 smd paste-2 mask+0.075: 66(4.2,1.4)
  rrect25% 2.2x2.2 smd paste-2 mask+0.075: 67(4.2,-1.9) 72(-4.2,-1.9)
  rrect25% 4.8x2.8 smd paste-3 mask+0.075: 68(0,5.5) 71(0,-5.5)
  rrect25% 4.8x2.2 smd paste-1.2 mask+0: 69(0,1.9)
  rrect25% 4.8x2.2 smd paste-2 mask+0.051: 70(0,-1.9)
TopLayer:
  region: -6.3,8.1 -7.5,8.1 -7.5,6.2 -7.1,6.2 -6.3,7
  region: -3,3.4 -3,0.4 2.398,0.4 2.398,3.4
TopOverlay:
  lines w0.2: -7.6,6 -7.6,8.2 -6,8.2
TopPaste:
  region: -7.5,6.6 -6.7,6.6 -7.08,6.22 -7.5,6.22
  region: -4.3,-2 -5.3,-2 -5.3,-3 -4.3,-3
  region: -4.1,-2 -3.1,-2 -3.1,-3 -4.1,-3
  region: -4.1,-1.8 -3.1,-1.8 -3.1,-0.8 -4.1,-0.8
  region: -4.3,-1.8 -5.3,-1.8 -5.3,-0.8 -4.3,-0.8
  region: -0.1,-5.6 -2.3,-5.6 -2.3,-6.8 -0.1,-6.8
  region: 0.1,-5.6 2.3,-5.6 2.3,-6.8 0.1,-6.8
  region: 0.1,-5.4 2.3,-5.4 2.3,-4.2 0.1,-4.2
  region: -0.1,-5.4 -2.3,-5.4 -2.3,-4.2 -0.1,-4.2
  region: -0.1,-2 -2.3,-2 -2.3,-3 -0.1,-3
  region: 0.1,-2 2.3,-2 2.3,-3 0.1,-3
  region: 0.1,-1.8 2.3,-1.8 2.3,-0.8 0.1,-0.8
  region: -0.1,-1.8 -2.3,-1.8 -2.3,-0.8 -0.1,-0.8
  region: -0.1,5.4 -2.3,5.4 -2.3,4.2 -0.1,4.2
  region: 0.1,5.4 2.3,5.4 2.3,4.2 0.1,4.2
  region: 0.1,5.6 2.3,5.6 2.3,6.8 0.1,6.8
  region: -7.4,7.3 -6.4,7.3 -6.4,6.9 -6.5,6.8 -7.4,6.8
  region: -7.4,8.1 -6.4,8.1 -6.4,7.5 -7.4,7.5
  region: -0.1,5.6 -2.3,5.6 -2.3,6.8 -0.1,6.8
  region: -0.1,2 -2.3,2 -2.3,3.2 -0.1,3.2
  region: 0.1,2 2.3,2 2.3,3.2 0.1,3.2
  region: 0.1,1.8 2.3,1.8 2.3,0.6 0.1,0.6
  region: -0.1,1.8 -2.3,1.8 -2.3,0.6 -0.1,0.6
  region: 4.1,-1.8 3.1,-1.8 3.1,-0.8 4.1,-0.8
  region: 4.3,-1.8 5.3,-1.8 5.3,-0.8 4.3,-0.8
  region: 4.3,-2 5.3,-2 5.3,-3 4.3,-3
  region: 4.1,-2 3.1,-2 3.1,-3 4.1,-3
  region: 4.1,0.8 3,0.8 3,1.3 4.1,1.3
  region: 4.3,0.8 5.4,0.8 5.4,1.3 4.3,1.3
  region: 4.3,2 5.4,2 5.4,1.5 4.3,1.5
  region: 4.1,2 3,2 3,1.5 4.1,1.5
  region: 4.7,5.3 4.7,3.9 5.5,3.9 5.5,5.3
  region: 4.7,5.5 4.7,6.9 5.5,6.9 5.5,5.5
Mechanical13:
  circle w0.1: c-6,6.412 r0.412
  lines w0.1: -7.575,-8.075 7.575,-8.075 7.575,8.075 -7.575,8.075 -7.575,-8.075
3D body: height 0.25, standoff 0, extent 0,0 0.254,0.254
3D body "LMZ31530_RLG0072A.stp": height 5.9, standoff 0, extent -7.5,-8 7.5,8